# Altium schematic symbol library PTH08T-BCM.SchLib: 1 symbol
Pins are listed as number, name and electrical type; pins without a type are passive.

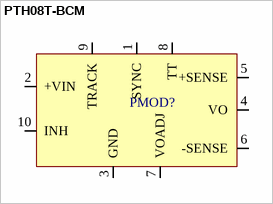
[diagram p0: symbol PTH08T-BCM]

## PTH08T-BCM
designator PMOD?  (value not drawn)
pins: 1 SYNC (power), 2 +VIN (power), 3 GND (power), 4 VO (power), 5 +SENSE (power), 6 -SENSE (power), 7 VOADJ (power), 8 TT (power), 9 TRACK (power), 10 INH (power)